# Altium integrated library WD Peripheral Clock Generator.IntLib: 39 symbols
Pins are listed as number, name and electrical type; pins without a type are passive.

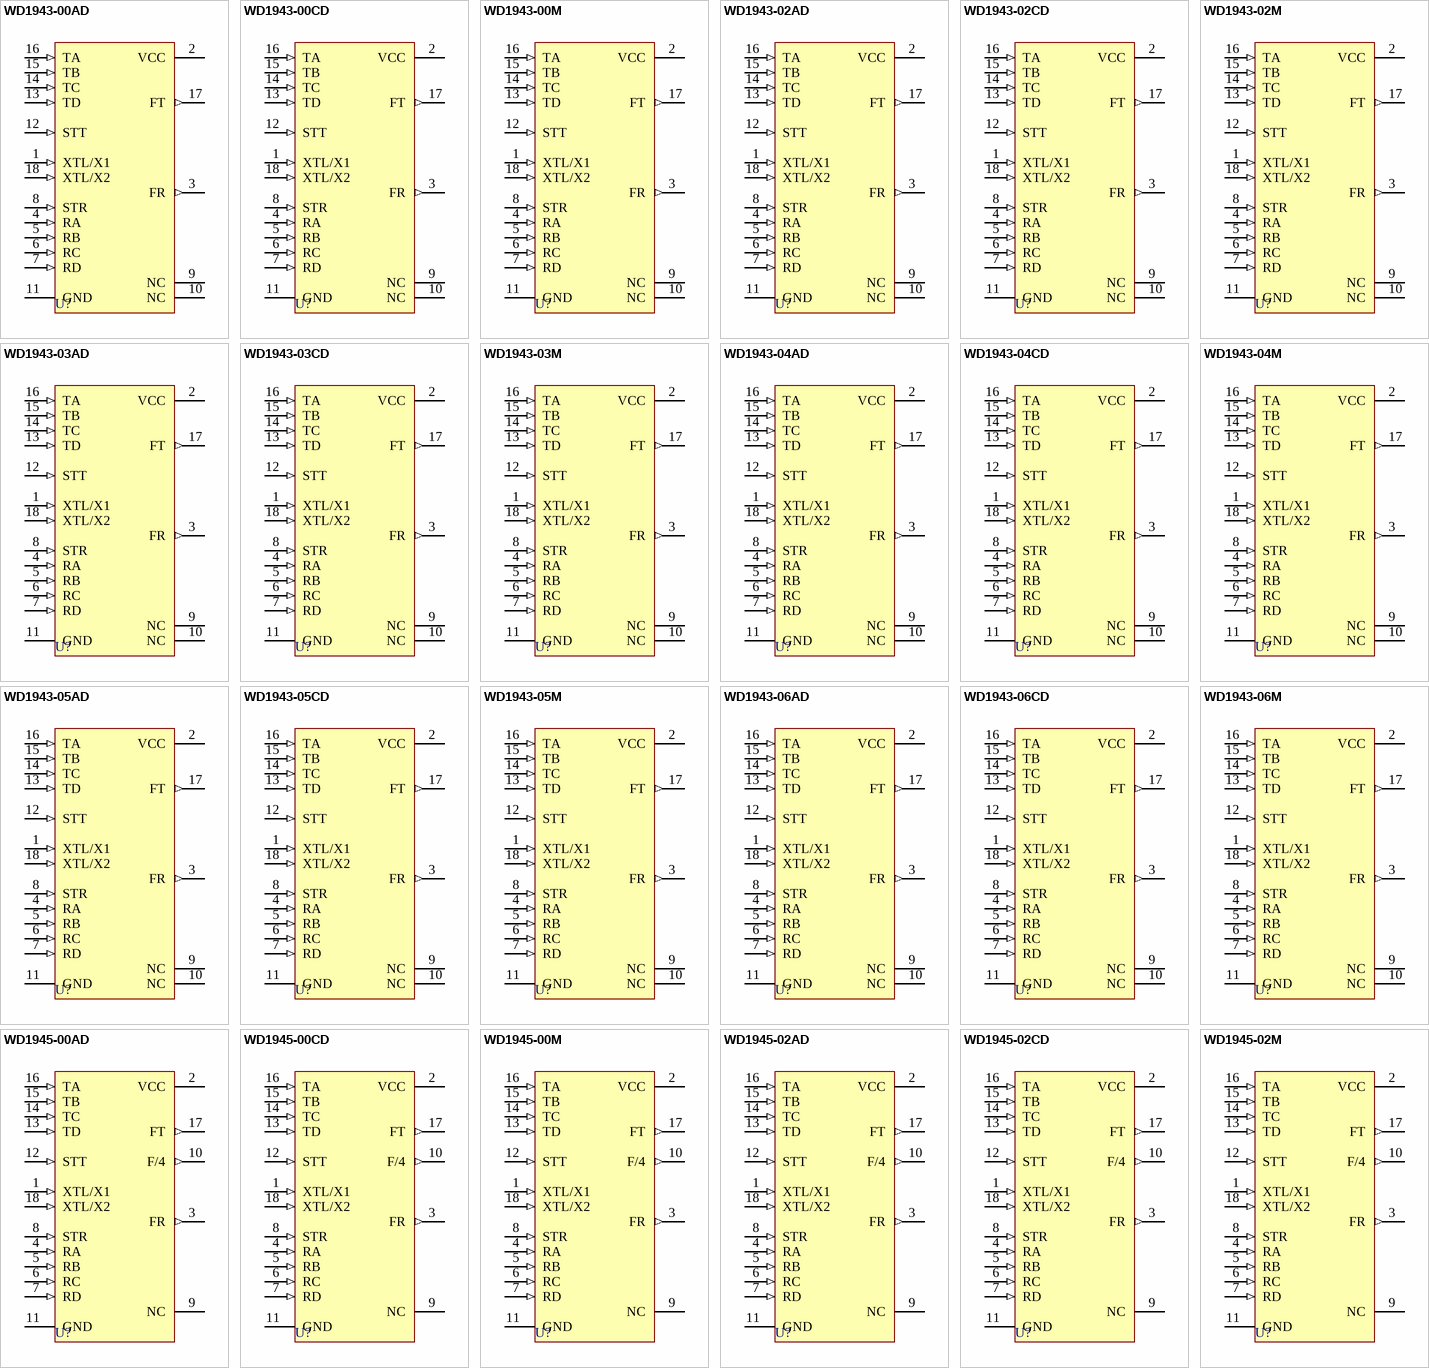
[diagram p0: symbols WD1943-00AD to WD1945-02M]

## WD1943-00AD
designator U?
Dual Baud Rate Clock; PackageDocument: 1984; Published: 8-Jun-2000; LatestRevisionDate: 4-Mar-2005; LatestRevisionNote: Stylized 3D Model Added.; DatasheetDocument: 1984; PackageReference: AD18; Publisher: Altium Limited; ComponentLink1Description: Manufacturer Link; ComponentLink1URL: http://www.wdc.com/
footprint AD18 (DIP; 18 Leads; Row Spacing 7.62 mm; Pitch 2.54 mm)
3D model AD18 (DIP; 18 Leads; Row Spacing 7.62 mm; Pitch 2.54 mm)
pins: 1 XTL/X1 (in), 2 VCC (power), 3 FR (out), 4 RA (in), 5 RB (in), 6 RC (in), 7 RD (in), 8 STR (in), 9 NC, 10 NC, 11 GND (power), 12 STT (in), 13 TD (in), 14 TC (in), 15 TB (in), 16 TA (in), 17 FT (out), 18 XTL/X2 (in)

## WD1943-00CD
designator U?
Dual Baud Rate Clock; PackageDocument: 1984; Published: 8-Jun-2000; LatestRevisionDate: 4-Mar-2005; LatestRevisionNote: Stylized 3D Model Added.; DatasheetDocument: 1984; PackageReference: CD18; Publisher: Altium Limited; ComponentLink1Description: Manufacturer Link; ComponentLink1URL: http://www.wdc.com/; Code_JEDEC: MS-001-BC
footprint CD18 (DIP; 18 Leads; Row Spacing 7.62 mm; Pitch 2.54 mm)
3D model CD18 (DIP; 18 Leads; Row Spacing 7.62 mm; Pitch 2.54 mm)
pins: 1 XTL/X1 (in), 2 VCC (power), 3 FR (out), 4 RA (in), 5 RB (in), 6 RC (in), 7 RD (in), 8 STR (in), 9 NC, 10 NC, 11 GND (power), 12 STT (in), 13 TD (in), 14 TC (in), 15 TB (in), 16 TA (in), 17 FT (out), 18 XTL/X2 (in)

## WD1943-00M
designator U?
Dual Baud Rate Clock; PackageDocument: 1984; Published: 8-Jun-2000; LatestRevisionDate: 4-Mar-2005; LatestRevisionNote: Stylized 3D Model Added.; DatasheetDocument: 1984; PackageReference: M18; Publisher: Altium Limited; ComponentLink1Description: Manufacturer Link; ComponentLink1URL: http://www.wdc.com/
footprint M18 (DIP; 18 Leads; Row Spacing 7.62 mm; Pitch 2.54 mm)
3D model AD18 (DIP; 18 Leads; Row Spacing 7.62 mm; Pitch 2.54 mm)
pins: 1 XTL/X1 (in), 2 VCC (power), 3 FR (out), 4 RA (in), 5 RB (in), 6 RC (in), 7 RD (in), 8 STR (in), 9 NC, 10 NC, 11 GND (power), 12 STT (in), 13 TD (in), 14 TC (in), 15 TB (in), 16 TA (in), 17 FT (out), 18 XTL/X2 (in)

## WD1943-02AD
designator U?
Dual Baud Rate Clock; PackageDocument: 1984; Published: 8-Jun-2000; LatestRevisionDate: 4-Mar-2005; LatestRevisionNote: Stylized 3D Model Added.; DatasheetDocument: 1984; PackageReference: AD18; Publisher: Altium Limited; ComponentLink1Description: Manufacturer Link; ComponentLink1URL: http://www.wdc.com/
footprint AD18 (DIP; 18 Leads; Row Spacing 7.62 mm; Pitch 2.54 mm)
3D model AD18 (DIP; 18 Leads; Row Spacing 7.62 mm; Pitch 2.54 mm)
pins: 1 XTL/X1 (in), 2 VCC (power), 3 FR (out), 4 RA (in), 5 RB (in), 6 RC (in), 7 RD (in), 8 STR (in), 9 NC, 10 NC, 11 GND (power), 12 STT (in), 13 TD (in), 14 TC (in), 15 TB (in), 16 TA (in), 17 FT (out), 18 XTL/X2 (in)

## WD1943-02CD
designator U?
Dual Baud Rate Clock; PackageDocument: 1984; Published: 8-Jun-2000; LatestRevisionDate: 4-Mar-2005; LatestRevisionNote: Stylized 3D Model Added.; DatasheetDocument: 1984; PackageReference: CD18; Publisher: Altium Limited; ComponentLink1Description: Manufacturer Link; ComponentLink1URL: http://www.wdc.com/; Code_JEDEC: MS-001-BC
footprint CD18 (DIP; 18 Leads; Row Spacing 7.62 mm; Pitch 2.54 mm)
3D model CD18 (DIP; 18 Leads; Row Spacing 7.62 mm; Pitch 2.54 mm)
pins: 1 XTL/X1 (in), 2 VCC (power), 3 FR (out), 4 RA (in), 5 RB (in), 6 RC (in), 7 RD (in), 8 STR (in), 9 NC, 10 NC, 11 GND (power), 12 STT (in), 13 TD (in), 14 TC (in), 15 TB (in), 16 TA (in), 17 FT (out), 18 XTL/X2 (in)

## WD1943-02M
designator U?
Dual Baud Rate Clock; PackageDocument: 1984; Published: 8-Jun-2000; LatestRevisionDate: 4-Mar-2005; LatestRevisionNote: Stylized 3D Model Added.; DatasheetDocument: 1984; PackageReference: M18; Publisher: Altium Limited; ComponentLink1Description: Manufacturer Link; ComponentLink1URL: http://www.wdc.com/
footprint M18 (DIP; 18 Leads; Row Spacing 7.62 mm; Pitch 2.54 mm)
3D model AD18 (DIP; 18 Leads; Row Spacing 7.62 mm; Pitch 2.54 mm)
pins: 1 XTL/X1 (in), 2 VCC (power), 3 FR (out), 4 RA (in), 5 RB (in), 6 RC (in), 7 RD (in), 8 STR (in), 9 NC, 10 NC, 11 GND (power), 12 STT (in), 13 TD (in), 14 TC (in), 15 TB (in), 16 TA (in), 17 FT (out), 18 XTL/X2 (in)

## WD1943-03AD
designator U?
Dual Baud Rate Clock; PackageDocument: 1984; Published: 8-Jun-2000; LatestRevisionDate: 4-Mar-2005; LatestRevisionNote: Stylized 3D Model Added.; DatasheetDocument: 1984; PackageReference: AD18; Publisher: Altium Limited; ComponentLink1Description: Manufacturer Link; ComponentLink1URL: http://www.wdc.com/
footprint AD18 (DIP; 18 Leads; Row Spacing 7.62 mm; Pitch 2.54 mm)
3D model AD18 (DIP; 18 Leads; Row Spacing 7.62 mm; Pitch 2.54 mm)
pins: 1 XTL/X1 (in), 2 VCC (power), 3 FR (out), 4 RA (in), 5 RB (in), 6 RC (in), 7 RD (in), 8 STR (in), 9 NC, 10 NC, 11 GND (power), 12 STT (in), 13 TD (in), 14 TC (in), 15 TB (in), 16 TA (in), 17 FT (out), 18 XTL/X2 (in)

## WD1943-03CD
designator U?
Dual Baud Rate Clock; PackageDocument: 1984; Published: 8-Jun-2000; LatestRevisionDate: 4-Mar-2005; LatestRevisionNote: Stylized 3D Model Added.; DatasheetDocument: 1984; PackageReference: CD18; Publisher: Altium Limited; ComponentLink1Description: Manufacturer Link; ComponentLink1URL: http://www.wdc.com/; Code_JEDEC: MS-001-BC
footprint CD18 (DIP; 18 Leads; Row Spacing 7.62 mm; Pitch 2.54 mm)
3D model CD18 (DIP; 18 Leads; Row Spacing 7.62 mm; Pitch 2.54 mm)
pins: 1 XTL/X1 (in), 2 VCC (power), 3 FR (out), 4 RA (in), 5 RB (in), 6 RC (in), 7 RD (in), 8 STR (in), 9 NC, 10 NC, 11 GND (power), 12 STT (in), 13 TD (in), 14 TC (in), 15 TB (in), 16 TA (in), 17 FT (out), 18 XTL/X2 (in)

## WD1943-03M
designator U?
Dual Baud Rate Clock; PackageDocument: 1984; Published: 8-Jun-2000; LatestRevisionDate: 4-Mar-2005; LatestRevisionNote: Stylized 3D Model Added.; DatasheetDocument: 1984; PackageReference: M18; Publisher: Altium Limited; ComponentLink1Description: Manufacturer Link; ComponentLink1URL: http://www.wdc.com/
footprint M18 (DIP; 18 Leads; Row Spacing 7.62 mm; Pitch 2.54 mm)
3D model AD18 (DIP; 18 Leads; Row Spacing 7.62 mm; Pitch 2.54 mm)
pins: 1 XTL/X1 (in), 2 VCC (power), 3 FR (out), 4 RA (in), 5 RB (in), 6 RC (in), 7 RD (in), 8 STR (in), 9 NC, 10 NC, 11 GND (power), 12 STT (in), 13 TD (in), 14 TC (in), 15 TB (in), 16 TA (in), 17 FT (out), 18 XTL/X2 (in)

## WD1943-04AD
designator U?
Dual Baud Rate Clock; PackageDocument: 1984; Published: 8-Jun-2000; LatestRevisionDate: 4-Mar-2005; LatestRevisionNote: Stylized 3D Model Added.; DatasheetDocument: 1984; PackageReference: AD18; Publisher: Altium Limited; ComponentLink1Description: Manufacturer Link; ComponentLink1URL: http://www.wdc.com/
footprint AD18 (DIP; 18 Leads; Row Spacing 7.62 mm; Pitch 2.54 mm)
3D model AD18 (DIP; 18 Leads; Row Spacing 7.62 mm; Pitch 2.54 mm)
pins: 1 XTL/X1 (in), 2 VCC (power), 3 FR (out), 4 RA (in), 5 RB (in), 6 RC (in), 7 RD (in), 8 STR (in), 9 NC, 10 NC, 11 GND (power), 12 STT (in), 13 TD (in), 14 TC (in), 15 TB (in), 16 TA (in), 17 FT (out), 18 XTL/X2 (in)

## WD1943-04CD
designator U?
Dual Baud Rate Clock; PackageDocument: 1984; Published: 8-Jun-2000; LatestRevisionDate: 4-Mar-2005; LatestRevisionNote: Stylized 3D Model Added.; DatasheetDocument: 1984; PackageReference: CD18; Publisher: Altium Limited; ComponentLink1Description: Manufacturer Link; ComponentLink1URL: http://www.wdc.com/; Code_JEDEC: MS-001-BC
footprint CD18 (DIP; 18 Leads; Row Spacing 7.62 mm; Pitch 2.54 mm)
3D model CD18 (DIP; 18 Leads; Row Spacing 7.62 mm; Pitch 2.54 mm)
pins: 1 XTL/X1 (in), 2 VCC (power), 3 FR (out), 4 RA (in), 5 RB (in), 6 RC (in), 7 RD (in), 8 STR (in), 9 NC, 10 NC, 11 GND (power), 12 STT (in), 13 TD (in), 14 TC (in), 15 TB (in), 16 TA (in), 17 FT (out), 18 XTL/X2 (in)

## WD1943-04M
designator U?
Dual Baud Rate Clock; PackageDocument: 1984; Published: 8-Jun-2000; LatestRevisionDate: 4-Mar-2005; LatestRevisionNote: Stylized 3D Model Added.; DatasheetDocument: 1984; PackageReference: M18; Publisher: Altium Limited; ComponentLink1Description: Manufacturer Link; ComponentLink1URL: http://www.wdc.com/
footprint M18 (DIP; 18 Leads; Row Spacing 7.62 mm; Pitch 2.54 mm)
3D model AD18 (DIP; 18 Leads; Row Spacing 7.62 mm; Pitch 2.54 mm)
pins: 1 XTL/X1 (in), 2 VCC (power), 3 FR (out), 4 RA (in), 5 RB (in), 6 RC (in), 7 RD (in), 8 STR (in), 9 NC, 10 NC, 11 GND (power), 12 STT (in), 13 TD (in), 14 TC (in), 15 TB (in), 16 TA (in), 17 FT (out), 18 XTL/X2 (in)

## WD1943-05AD
designator U?
Dual Baud Rate Clock; PackageDocument: 1984; Published: 8-Jun-2000; LatestRevisionDate: 4-Mar-2005; LatestRevisionNote: Stylized 3D Model Added.; DatasheetDocument: 1984; PackageReference: AD18; Publisher: Altium Limited; ComponentLink1Description: Manufacturer Link; ComponentLink1URL: http://www.wdc.com/
footprint AD18 (DIP; 18 Leads; Row Spacing 7.62 mm; Pitch 2.54 mm)
3D model AD18 (DIP; 18 Leads; Row Spacing 7.62 mm; Pitch 2.54 mm)
pins: 1 XTL/X1 (in), 2 VCC (power), 3 FR (out), 4 RA (in), 5 RB (in), 6 RC (in), 7 RD (in), 8 STR (in), 9 NC, 10 NC, 11 GND (power), 12 STT (in), 13 TD (in), 14 TC (in), 15 TB (in), 16 TA (in), 17 FT (out), 18 XTL/X2 (in)

## WD1943-05CD
designator U?
Dual Baud Rate Clock; PackageDocument: 1984; Published: 8-Jun-2000; LatestRevisionDate: 4-Mar-2005; LatestRevisionNote: Stylized 3D Model Added.; DatasheetDocument: 1984; PackageReference: CD18; Publisher: Altium Limited; ComponentLink1Description: Manufacturer Link; ComponentLink1URL: http://www.wdc.com/; Code_JEDEC: MS-001-BC
footprint CD18 (DIP; 18 Leads; Row Spacing 7.62 mm; Pitch 2.54 mm)
3D model CD18 (DIP; 18 Leads; Row Spacing 7.62 mm; Pitch 2.54 mm)
pins: 1 XTL/X1 (in), 2 VCC (power), 3 FR (out), 4 RA (in), 5 RB (in), 6 RC (in), 7 RD (in), 8 STR (in), 9 NC, 10 NC, 11 GND (power), 12 STT (in), 13 TD (in), 14 TC (in), 15 TB (in), 16 TA (in), 17 FT (out), 18 XTL/X2 (in)

## WD1943-05M
designator U?
Dual Baud Rate Clock; PackageDocument: 1984; Published: 8-Jun-2000; LatestRevisionDate: 4-Mar-2005; LatestRevisionNote: Stylized 3D Model Added.; DatasheetDocument: 1984; PackageReference: M18; Publisher: Altium Limited; ComponentLink1Description: Manufacturer Link; ComponentLink1URL: http://www.wdc.com/
footprint M18 (DIP; 18 Leads; Row Spacing 7.62 mm; Pitch 2.54 mm)
3D model AD18 (DIP; 18 Leads; Row Spacing 7.62 mm; Pitch 2.54 mm)
pins: 1 XTL/X1 (in), 2 VCC (power), 3 FR (out), 4 RA (in), 5 RB (in), 6 RC (in), 7 RD (in), 8 STR (in), 9 NC, 10 NC, 11 GND (power), 12 STT (in), 13 TD (in), 14 TC (in), 15 TB (in), 16 TA (in), 17 FT (out), 18 XTL/X2 (in)

## WD1943-06AD
designator U?
Dual Baud Rate Clock; PackageDocument: 1984; Published: 8-Jun-2000; LatestRevisionDate: 4-Mar-2005; LatestRevisionNote: Stylized 3D Model Added.; DatasheetDocument: 1984; PackageReference: AD18; Publisher: Altium Limited; ComponentLink1Description: Manufacturer Link; ComponentLink1URL: http://www.wdc.com/
footprint AD18 (DIP; 18 Leads; Row Spacing 7.62 mm; Pitch 2.54 mm)
3D model AD18 (DIP; 18 Leads; Row Spacing 7.62 mm; Pitch 2.54 mm)
pins: 1 XTL/X1 (in), 2 VCC (power), 3 FR (out), 4 RA (in), 5 RB (in), 6 RC (in), 7 RD (in), 8 STR (in), 9 NC, 10 NC, 11 GND (power), 12 STT (in), 13 TD (in), 14 TC (in), 15 TB (in), 16 TA (in), 17 FT (out), 18 XTL/X2 (in)

## WD1943-06CD
designator U?
Dual Baud Rate Clock; PackageDocument: 1984; Published: 8-Jun-2000; LatestRevisionDate: 4-Mar-2005; LatestRevisionNote: Stylized 3D Model Added.; DatasheetDocument: 1984; PackageReference: CD18; Publisher: Altium Limited; ComponentLink1Description: Manufacturer Link; ComponentLink1URL: http://www.wdc.com/; Code_JEDEC: MS-001-BC
footprint CD18 (DIP; 18 Leads; Row Spacing 7.62 mm; Pitch 2.54 mm)
3D model CD18 (DIP; 18 Leads; Row Spacing 7.62 mm; Pitch 2.54 mm)
pins: 1 XTL/X1 (in), 2 VCC (power), 3 FR (out), 4 RA (in), 5 RB (in), 6 RC (in), 7 RD (in), 8 STR (in), 9 NC, 10 NC, 11 GND (power), 12 STT (in), 13 TD (in), 14 TC (in), 15 TB (in), 16 TA (in), 17 FT (out), 18 XTL/X2 (in)

## WD1943-06M
designator U?
Dual Baud Rate Clock; PackageDocument: 1984; Published: 8-Jun-2000; LatestRevisionDate: 4-Mar-2005; LatestRevisionNote: Stylized 3D Model Added.; DatasheetDocument: 1984; PackageReference: M18; Publisher: Altium Limited; ComponentLink1Description: Manufacturer Link; ComponentLink1URL: http://www.wdc.com/
footprint M18 (DIP; 18 Leads; Row Spacing 7.62 mm; Pitch 2.54 mm)
3D model AD18 (DIP; 18 Leads; Row Spacing 7.62 mm; Pitch 2.54 mm)
pins: 1 XTL/X1 (in), 2 VCC (power), 3 FR (out), 4 RA (in), 5 RB (in), 6 RC (in), 7 RD (in), 8 STR (in), 9 NC, 10 NC, 11 GND (power), 12 STT (in), 13 TD (in), 14 TC (in), 15 TB (in), 16 TA (in), 17 FT (out), 18 XTL/X2 (in)

## WD1945-00AD
designator U?
Dual Baud Rate Clock; PackageDocument: 1984; Published: 8-Jun-2000; LatestRevisionDate: 4-Mar-2005; LatestRevisionNote: Stylized 3D Model Added.; DatasheetDocument: 1984; PackageReference: AD18; Publisher: Altium Limited; ComponentLink1Description: Manufacturer Link; ComponentLink1URL: http://www.wdc.com/
footprint AD18 (DIP; 18 Leads; Row Spacing 7.62 mm; Pitch 2.54 mm)
3D model AD18 (DIP; 18 Leads; Row Spacing 7.62 mm; Pitch 2.54 mm)
pins: 1 XTL/X1 (in), 2 VCC (power), 3 FR (out), 4 RA (in), 5 RB (in), 6 RC (in), 7 RD (in), 8 STR (in), 9 NC, 10 F/4 (out), 11 GND (power), 12 STT (in), 13 TD (in), 14 TC (in), 15 TB (in), 16 TA (in), 17 FT (out), 18 XTL/X2 (in)

## WD1945-00CD
designator U?
Dual Baud Rate Clock; PackageDocument: 1984; Published: 8-Jun-2000; LatestRevisionDate: 4-Mar-2005; LatestRevisionNote: Stylized 3D Model Added.; DatasheetDocument: 1984; PackageReference: CD18; Publisher: Altium Limited; ComponentLink1Description: Manufacturer Link; ComponentLink1URL: http://www.wdc.com/; Code_JEDEC: MS-001-BC
footprint CD18 (DIP; 18 Leads; Row Spacing 7.62 mm; Pitch 2.54 mm)
3D model CD18 (DIP; 18 Leads; Row Spacing 7.62 mm; Pitch 2.54 mm)
pins: 1 XTL/X1 (in), 2 VCC (power), 3 FR (out), 4 RA (in), 5 RB (in), 6 RC (in), 7 RD (in), 8 STR (in), 9 NC, 10 F/4 (out), 11 GND (power), 12 STT (in), 13 TD (in), 14 TC (in), 15 TB (in), 16 TA (in), 17 FT (out), 18 XTL/X2 (in)

## WD1945-00M
designator U?
Dual Baud Rate Clock; PackageDocument: 1984; Published: 8-Jun-2000; LatestRevisionDate: 4-Mar-2005; LatestRevisionNote: Stylized 3D Model Added.; DatasheetDocument: 1984; PackageReference: M18; Publisher: Altium Limited; ComponentLink1Description: Manufacturer Link; ComponentLink1URL: http://www.wdc.com/
footprint M18 (DIP; 18 Leads; Row Spacing 7.62 mm; Pitch 2.54 mm)
3D model AD18 (DIP; 18 Leads; Row Spacing 7.62 mm; Pitch 2.54 mm)
pins: 1 XTL/X1 (in), 2 VCC (power), 3 FR (out), 4 RA (in), 5 RB (in), 6 RC (in), 7 RD (in), 8 STR (in), 9 NC, 10 F/4 (out), 11 GND (power), 12 STT (in), 13 TD (in), 14 TC (in), 15 TB (in), 16 TA (in), 17 FT (out), 18 XTL/X2 (in)

## WD1945-02AD
designator U?
Dual Baud Rate Clock; PackageDocument: 1984; Published: 8-Jun-2000; LatestRevisionDate: 4-Mar-2005; LatestRevisionNote: Stylized 3D Model Added.; DatasheetDocument: 1984; PackageReference: AD18; Publisher: Altium Limited; ComponentLink1Description: Manufacturer Link; ComponentLink1URL: http://www.wdc.com/
footprint AD18 (DIP; 18 Leads; Row Spacing 7.62 mm; Pitch 2.54 mm)
3D model AD18 (DIP; 18 Leads; Row Spacing 7.62 mm; Pitch 2.54 mm)
pins: 1 XTL/X1 (in), 2 VCC (power), 3 FR (out), 4 RA (in), 5 RB (in), 6 RC (in), 7 RD (in), 8 STR (in), 9 NC, 10 F/4 (out), 11 GND (power), 12 STT (in), 13 TD (in), 14 TC (in), 15 TB (in), 16 TA (in), 17 FT (out), 18 XTL/X2 (in)

## WD1945-02CD
designator U?
Dual Baud Rate Clock; PackageDocument: 1984; Published: 8-Jun-2000; LatestRevisionDate: 4-Mar-2005; LatestRevisionNote: Stylized 3D Model Added.; DatasheetDocument: 1984; PackageReference: CD18; Publisher: Altium Limited; ComponentLink1Description: Manufacturer Link; ComponentLink1URL: http://www.wdc.com/; Code_JEDEC: MS-001-BC
footprint CD18 (DIP; 18 Leads; Row Spacing 7.62 mm; Pitch 2.54 mm)
3D model CD18 (DIP; 18 Leads; Row Spacing 7.62 mm; Pitch 2.54 mm)
pins: 1 XTL/X1 (in), 2 VCC (power), 3 FR (out), 4 RA (in), 5 RB (in), 6 RC (in), 7 RD (in), 8 STR (in), 9 NC, 10 F/4 (out), 11 GND (power), 12 STT (in), 13 TD (in), 14 TC (in), 15 TB (in), 16 TA (in), 17 FT (out), 18 XTL/X2 (in)

## WD1945-02M
designator U?
Dual Baud Rate Clock; PackageDocument: 1984; Published: 8-Jun-2000; LatestRevisionDate: 4-Mar-2005; LatestRevisionNote: Stylized 3D Model Added.; DatasheetDocument: 1984; PackageReference: M18; Publisher: Altium Limited; ComponentLink1Description: Manufacturer Link; ComponentLink1URL: http://www.wdc.com/
footprint M18 (DIP; 18 Leads; Row Spacing 7.62 mm; Pitch 2.54 mm)
3D model AD18 (DIP; 18 Leads; Row Spacing 7.62 mm; Pitch 2.54 mm)
pins: 1 XTL/X1 (in), 2 VCC (power), 3 FR (out), 4 RA (in), 5 RB (in), 6 RC (in), 7 RD (in), 8 STR (in), 9 NC, 10 F/4 (out), 11 GND (power), 12 STT (in), 13 TD (in), 14 TC (in), 15 TB (in), 16 TA (in), 17 FT (out), 18 XTL/X2 (in)

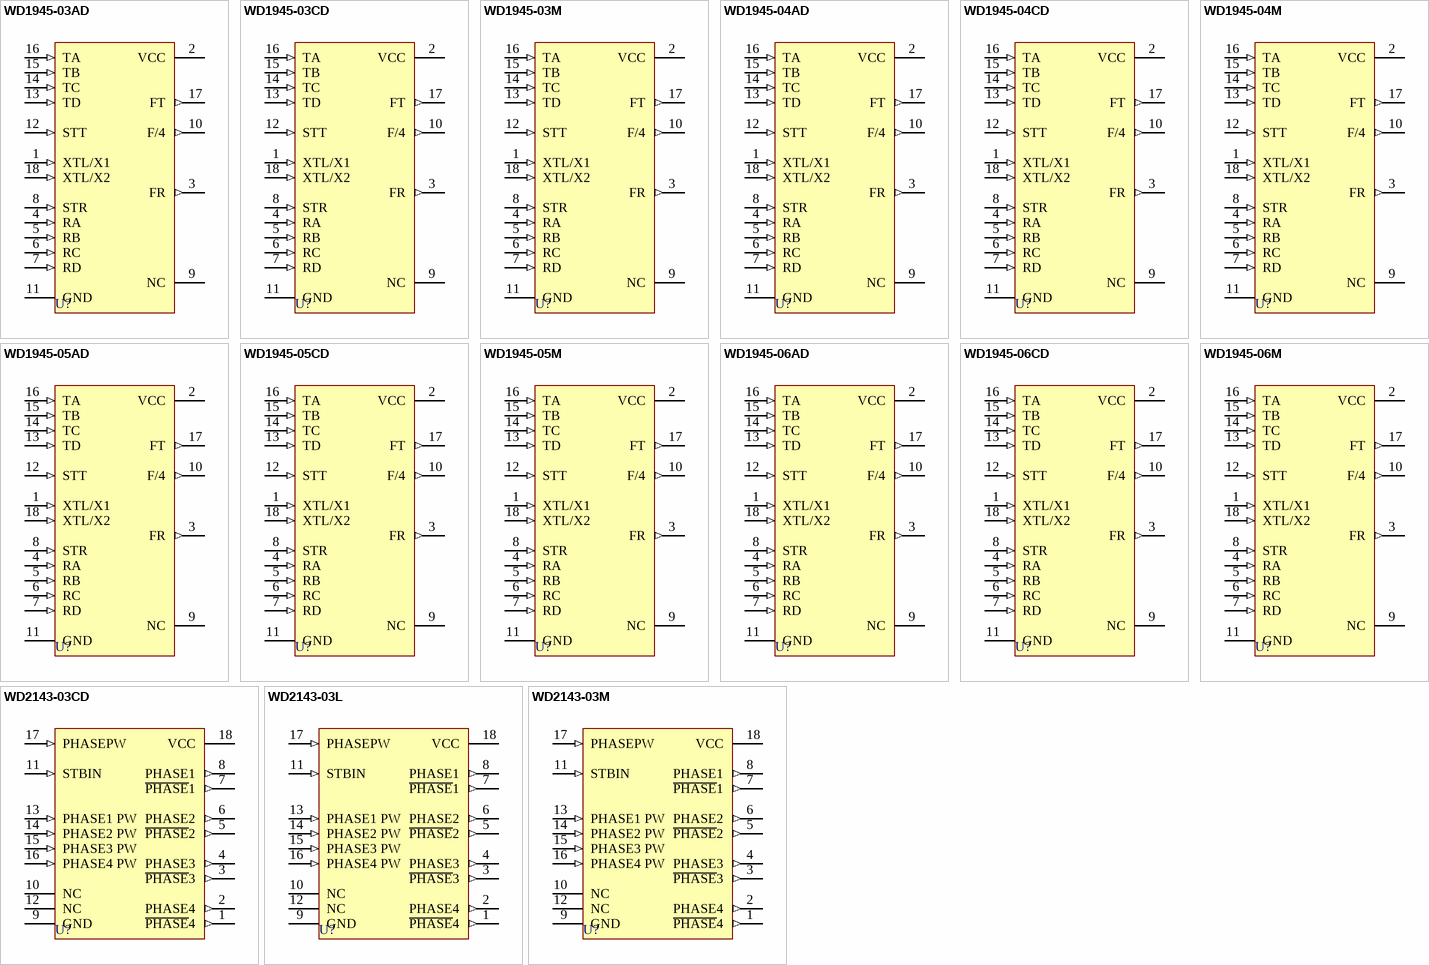
[diagram p1: symbols WD1945-03AD to WD2143-03M]

## WD1945-03AD
designator U?
Dual Baud Rate Clock; PackageDocument: 1984; Published: 8-Jun-2000; LatestRevisionDate: 4-Mar-2005; LatestRevisionNote: Stylized 3D Model Added.; DatasheetDocument: 1984; PackageReference: AD18; Publisher: Altium Limited; ComponentLink1Description: Manufacturer Link; ComponentLink1URL: http://www.wdc.com/
footprint AD18 (DIP; 18 Leads; Row Spacing 7.62 mm; Pitch 2.54 mm)
3D model AD18 (DIP; 18 Leads; Row Spacing 7.62 mm; Pitch 2.54 mm)
pins: 1 XTL/X1 (in), 2 VCC (power), 3 FR (out), 4 RA (in), 5 RB (in), 6 RC (in), 7 RD (in), 8 STR (in), 9 NC, 10 F/4 (out), 11 GND (power), 12 STT (in), 13 TD (in), 14 TC (in), 15 TB (in), 16 TA (in), 17 FT (out), 18 XTL/X2 (in)

## WD1945-03CD
designator U?
Dual Baud Rate Clock; PackageDocument: 1984; Published: 8-Jun-2000; LatestRevisionDate: 4-Mar-2005; LatestRevisionNote: Stylized 3D Model Added.; DatasheetDocument: 1984; PackageReference: CD18; Publisher: Altium Limited; ComponentLink1Description: Manufacturer Link; ComponentLink1URL: http://www.wdc.com/; Code_JEDEC: MS-001-BC
footprint CD18 (DIP; 18 Leads; Row Spacing 7.62 mm; Pitch 2.54 mm)
3D model CD18 (DIP; 18 Leads; Row Spacing 7.62 mm; Pitch 2.54 mm)
pins: 1 XTL/X1 (in), 2 VCC (power), 3 FR (out), 4 RA (in), 5 RB (in), 6 RC (in), 7 RD (in), 8 STR (in), 9 NC, 10 F/4 (out), 11 GND (power), 12 STT (in), 13 TD (in), 14 TC (in), 15 TB (in), 16 TA (in), 17 FT (out), 18 XTL/X2 (in)

## WD1945-03M
designator U?
Dual Baud Rate Clock; PackageDocument: 1984; Published: 8-Jun-2000; LatestRevisionDate: 4-Mar-2005; LatestRevisionNote: Stylized 3D Model Added.; DatasheetDocument: 1984; PackageReference: M18; Publisher: Altium Limited; ComponentLink1Description: Manufacturer Link; ComponentLink1URL: http://www.wdc.com/
footprint M18 (DIP; 18 Leads; Row Spacing 7.62 mm; Pitch 2.54 mm)
3D model AD18 (DIP; 18 Leads; Row Spacing 7.62 mm; Pitch 2.54 mm)
pins: 1 XTL/X1 (in), 2 VCC (power), 3 FR (out), 4 RA (in), 5 RB (in), 6 RC (in), 7 RD (in), 8 STR (in), 9 NC, 10 F/4 (out), 11 GND (power), 12 STT (in), 13 TD (in), 14 TC (in), 15 TB (in), 16 TA (in), 17 FT (out), 18 XTL/X2 (in)

## WD1945-04AD
designator U?
Dual Baud Rate Clock; PackageDocument: 1984; Published: 8-Jun-2000; LatestRevisionDate: 4-Mar-2005; LatestRevisionNote: Stylized 3D Model Added.; DatasheetDocument: 1984; PackageReference: AD18; Publisher: Altium Limited; ComponentLink1Description: Manufacturer Link; ComponentLink1URL: http://www.wdc.com/
footprint AD18 (DIP; 18 Leads; Row Spacing 7.62 mm; Pitch 2.54 mm)
3D model AD18 (DIP; 18 Leads; Row Spacing 7.62 mm; Pitch 2.54 mm)
pins: 1 XTL/X1 (in), 2 VCC (power), 3 FR (out), 4 RA (in), 5 RB (in), 6 RC (in), 7 RD (in), 8 STR (in), 9 NC, 10 F/4 (out), 11 GND (power), 12 STT (in), 13 TD (in), 14 TC (in), 15 TB (in), 16 TA (in), 17 FT (out), 18 XTL/X2 (in)

## WD1945-04CD
designator U?
Dual Baud Rate Clock; PackageDocument: 1984; Published: 8-Jun-2000; LatestRevisionDate: 4-Mar-2005; LatestRevisionNote: Stylized 3D Model Added.; DatasheetDocument: 1984; PackageReference: CD18; Publisher: Altium Limited; ComponentLink1Description: Manufacturer Link; ComponentLink1URL: http://www.wdc.com/; Code_JEDEC: MS-001-BC
footprint CD18 (DIP; 18 Leads; Row Spacing 7.62 mm; Pitch 2.54 mm)
3D model CD18 (DIP; 18 Leads; Row Spacing 7.62 mm; Pitch 2.54 mm)
pins: 1 XTL/X1 (in), 2 VCC (power), 3 FR (out), 4 RA (in), 5 RB (in), 6 RC (in), 7 RD (in), 8 STR (in), 9 NC, 10 F/4 (out), 11 GND (power), 12 STT (in), 13 TD (in), 14 TC (in), 15 TB (in), 16 TA (in), 17 FT (out), 18 XTL/X2 (in)

## WD1945-04M
designator U?
Dual Baud Rate Clock; PackageDocument: 1984; Published: 8-Jun-2000; LatestRevisionDate: 4-Mar-2005; LatestRevisionNote: Stylized 3D Model Added.; DatasheetDocument: 1984; PackageReference: M18; Publisher: Altium Limited; ComponentLink1Description: Manufacturer Link; ComponentLink1URL: http://www.wdc.com/
footprint M18 (DIP; 18 Leads; Row Spacing 7.62 mm; Pitch 2.54 mm)
3D model AD18 (DIP; 18 Leads; Row Spacing 7.62 mm; Pitch 2.54 mm)
pins: 1 XTL/X1 (in), 2 VCC (power), 3 FR (out), 4 RA (in), 5 RB (in), 6 RC (in), 7 RD (in), 8 STR (in), 9 NC, 10 F/4 (out), 11 GND (power), 12 STT (in), 13 TD (in), 14 TC (in), 15 TB (in), 16 TA (in), 17 FT (out), 18 XTL/X2 (in)

## WD1945-05AD
designator U?
Dual Baud Rate Clock; PackageDocument: 1984; Published: 8-Jun-2000; LatestRevisionDate: 4-Mar-2005; LatestRevisionNote: Stylized 3D Model Added.; DatasheetDocument: 1984; PackageReference: AD18; Publisher: Altium Limited; ComponentLink1Description: Manufacturer Link; ComponentLink1URL: http://www.wdc.com/
footprint AD18 (DIP; 18 Leads; Row Spacing 7.62 mm; Pitch 2.54 mm)
3D model AD18 (DIP; 18 Leads; Row Spacing 7.62 mm; Pitch 2.54 mm)
pins: 1 XTL/X1 (in), 2 VCC (power), 3 FR (out), 4 RA (in), 5 RB (in), 6 RC (in), 7 RD (in), 8 STR (in), 9 NC, 10 F/4 (out), 11 GND (power), 12 STT (in), 13 TD (in), 14 TC (in), 15 TB (in), 16 TA (in), 17 FT (out), 18 XTL/X2 (in)

## WD1945-05CD
designator U?
Dual Baud Rate Clock; PackageDocument: 1984; Published: 8-Jun-2000; LatestRevisionDate: 4-Mar-2005; LatestRevisionNote: Stylized 3D Model Added.; DatasheetDocument: 1984; PackageReference: CD18; Publisher: Altium Limited; ComponentLink1Description: Manufacturer Link; ComponentLink1URL: http://www.wdc.com/; Code_JEDEC: MS-001-BC
footprint CD18 (DIP; 18 Leads; Row Spacing 7.62 mm; Pitch 2.54 mm)
3D model CD18 (DIP; 18 Leads; Row Spacing 7.62 mm; Pitch 2.54 mm)
pins: 1 XTL/X1 (in), 2 VCC (power), 3 FR (out), 4 RA (in), 5 RB (in), 6 RC (in), 7 RD (in), 8 STR (in), 9 NC, 10 F/4 (out), 11 GND (power), 12 STT (in), 13 TD (in), 14 TC (in), 15 TB (in), 16 TA (in), 17 FT (out), 18 XTL/X2 (in)

## WD1945-05M
designator U?
Dual Baud Rate Clock; PackageDocument: 1984; Published: 8-Jun-2000; LatestRevisionDate: 4-Mar-2005; LatestRevisionNote: Stylized 3D Model Added.; DatasheetDocument: 1984; PackageReference: M18; Publisher: Altium Limited; ComponentLink1Description: Manufacturer Link; ComponentLink1URL: http://www.wdc.com/
footprint M18 (DIP; 18 Leads; Row Spacing 7.62 mm; Pitch 2.54 mm)
3D model AD18 (DIP; 18 Leads; Row Spacing 7.62 mm; Pitch 2.54 mm)
pins: 1 XTL/X1 (in), 2 VCC (power), 3 FR (out), 4 RA (in), 5 RB (in), 6 RC (in), 7 RD (in), 8 STR (in), 9 NC, 10 F/4 (out), 11 GND (power), 12 STT (in), 13 TD (in), 14 TC (in), 15 TB (in), 16 TA (in), 17 FT (out), 18 XTL/X2 (in)

## WD1945-06AD
designator U?
Dual Baud Rate Clock; PackageDocument: 1984; Published: 8-Jun-2000; LatestRevisionDate: 4-Mar-2005; LatestRevisionNote: Stylized 3D Model Added.; DatasheetDocument: 1984; PackageReference: AD18; Publisher: Altium Limited; ComponentLink1Description: Manufacturer Link; ComponentLink1URL: http://www.wdc.com/
footprint AD18 (DIP; 18 Leads; Row Spacing 7.62 mm; Pitch 2.54 mm)
3D model AD18 (DIP; 18 Leads; Row Spacing 7.62 mm; Pitch 2.54 mm)
pins: 1 XTL/X1 (in), 2 VCC (power), 3 FR (out), 4 RA (in), 5 RB (in), 6 RC (in), 7 RD (in), 8 STR (in), 9 NC, 10 F/4 (out), 11 GND (power), 12 STT (in), 13 TD (in), 14 TC (in), 15 TB (in), 16 TA (in), 17 FT (out), 18 XTL/X2 (in)

## WD1945-06CD
designator U?
Dual Baud Rate Clock; PackageDocument: 1984; Published: 8-Jun-2000; LatestRevisionDate: 4-Mar-2005; LatestRevisionNote: Stylized 3D Model Added.; DatasheetDocument: 1984; PackageReference: CD18; Publisher: Altium Limited; ComponentLink1Description: Manufacturer Link; ComponentLink1URL: http://www.wdc.com/; Code_JEDEC: MS-001-BC
footprint CD18 (DIP; 18 Leads; Row Spacing 7.62 mm; Pitch 2.54 mm)
3D model CD18 (DIP; 18 Leads; Row Spacing 7.62 mm; Pitch 2.54 mm)
pins: 1 XTL/X1 (in), 2 VCC (power), 3 FR (out), 4 RA (in), 5 RB (in), 6 RC (in), 7 RD (in), 8 STR (in), 9 NC, 10 F/4 (out), 11 GND (power), 12 STT (in), 13 TD (in), 14 TC (in), 15 TB (in), 16 TA (in), 17 FT (out), 18 XTL/X2 (in)

## WD1945-06M
designator U?
Dual Baud Rate Clock; PackageDocument: 1984; Published: 8-Jun-2000; LatestRevisionDate: 4-Mar-2005; LatestRevisionNote: Stylized 3D Model Added.; DatasheetDocument: 1984; PackageReference: M18; Publisher: Altium Limited; ComponentLink1Description: Manufacturer Link; ComponentLink1URL: http://www.wdc.com/
footprint M18 (DIP; 18 Leads; Row Spacing 7.62 mm; Pitch 2.54 mm)
3D model AD18 (DIP; 18 Leads; Row Spacing 7.62 mm; Pitch 2.54 mm)
pins: 1 XTL/X1 (in), 2 VCC (power), 3 FR (out), 4 RA (in), 5 RB (in), 6 RC (in), 7 RD (in), 8 STR (in), 9 NC, 10 F/4 (out), 11 GND (power), 12 STT (in), 13 TD (in), 14 TC (in), 15 TB (in), 16 TA (in), 17 FT (out), 18 XTL/X2 (in)

## WD2143-03CD
designator U?
Four Phase Clock Generator; PackageDocument: 1984; Published: 8-Jun-2000; LatestRevisionDate: 4-Mar-2005; LatestRevisionNote: Stylized 3D Model Added.; DatasheetDocument: 1984; PackageReference: CD18; Publisher: Altium Limited; ComponentLink1Description: Manufacturer Link; ComponentLink1URL: http://www.wdc.com/; Code_JEDEC: MS-001-BC
footprint CD18 (DIP; 18 Leads; Row Spacing 7.62 mm; Pitch 2.54 mm)
3D model CD18 (DIP; 18 Leads; Row Spacing 7.62 mm; Pitch 2.54 mm)
pins: 1 ~{PHASE}4 (out), 2 PHASE4 (out), 3 ~{PHASE}3 (out), 4 PHASE3 (out), 5 ~{PHASE}2 (out), 6 PHASE2 (out), 7 ~{PHASE}1 (out), 8 PHASE1 (out), 9 GND (power), 10 NC, 11 STBIN (in), 12 NC, 13 PHASE1 PW (in), 14 PHASE2 PW (in), 15 PHASE3 PW (in), 16 PHASE4 PW (in), 17 PHASEPW (in), 18 VCC (power)

## WD2143-03L
designator U?
Four Phase Clock Generator; PackageDocument: 1984; Published: 8-Jun-2000; LatestRevisionDate: 4-Mar-2005; LatestRevisionNote: Stylized 3D Model Added.; DatasheetDocument: 1984; PackageReference: L18; Publisher: Altium Limited; ComponentLink1Description: Manufacturer Link; ComponentLink1URL: http://www.wdc.com/
footprint L18 (DIP; 18 Leads; Row Spacing 7.62 mm; Pitch 2.54 mm)
3D model AD18 (DIP; 18 Leads; Row Spacing 7.62 mm; Pitch 2.54 mm)
pins: 1 ~{PHASE}4 (out), 2 PHASE4 (out), 3 ~{PHASE}3 (out), 4 PHASE3 (out), 5 ~{PHASE}2 (out), 6 PHASE2 (out), 7 ~{PHASE}1 (out), 8 PHASE1 (out), 9 GND (power), 10 NC, 11 STBIN (in), 12 NC, 13 PHASE1 PW (in), 14 PHASE2 PW (in), 15 PHASE3 PW (in), 16 PHASE4 PW (in), 17 PHASEPW (in), 18 VCC (power)

## WD2143-03M
designator U?
Four Phase Clock Generator; PackageDocument: 1984; Published: 8-Jun-2000; LatestRevisionDate: 4-Mar-2005; LatestRevisionNote: Stylized 3D Model Added.; DatasheetDocument: 1984; PackageReference: M18; Publisher: Altium Limited; ComponentLink1Description: Manufacturer Link; ComponentLink1URL: http://www.wdc.com/
footprint M18 (DIP; 18 Leads; Row Spacing 7.62 mm; Pitch 2.54 mm)
3D model AD18 (DIP; 18 Leads; Row Spacing 7.62 mm; Pitch 2.54 mm)
pins: 1 ~{PHASE}4 (out), 2 PHASE4 (out), 3 ~{PHASE}3 (out), 4 PHASE3 (out), 5 ~{PHASE}2 (out), 6 PHASE2 (out), 7 ~{PHASE}1 (out), 8 PHASE1 (out), 9 GND (power), 10 NC, 11 STBIN (in), 12 NC, 13 PHASE1 PW (in), 14 PHASE2 PW (in), 15 PHASE3 PW (in), 16 PHASE4 PW (in), 17 PHASEPW (in), 18 VCC (power)